# Altium footprint library smartcar_lib.PcbLib: 126 footprints (part 3 of 8)
Each footprint in its own frame and in the unit in brackets; x right, y up, seen from the top. Pads: shape width x height; smd on the part's side, far side on the other; paste and mask are expansions set on the pad; w line width, h text height; cw(c..) or ccw(c..) is an arc to the next point about the centre after c.
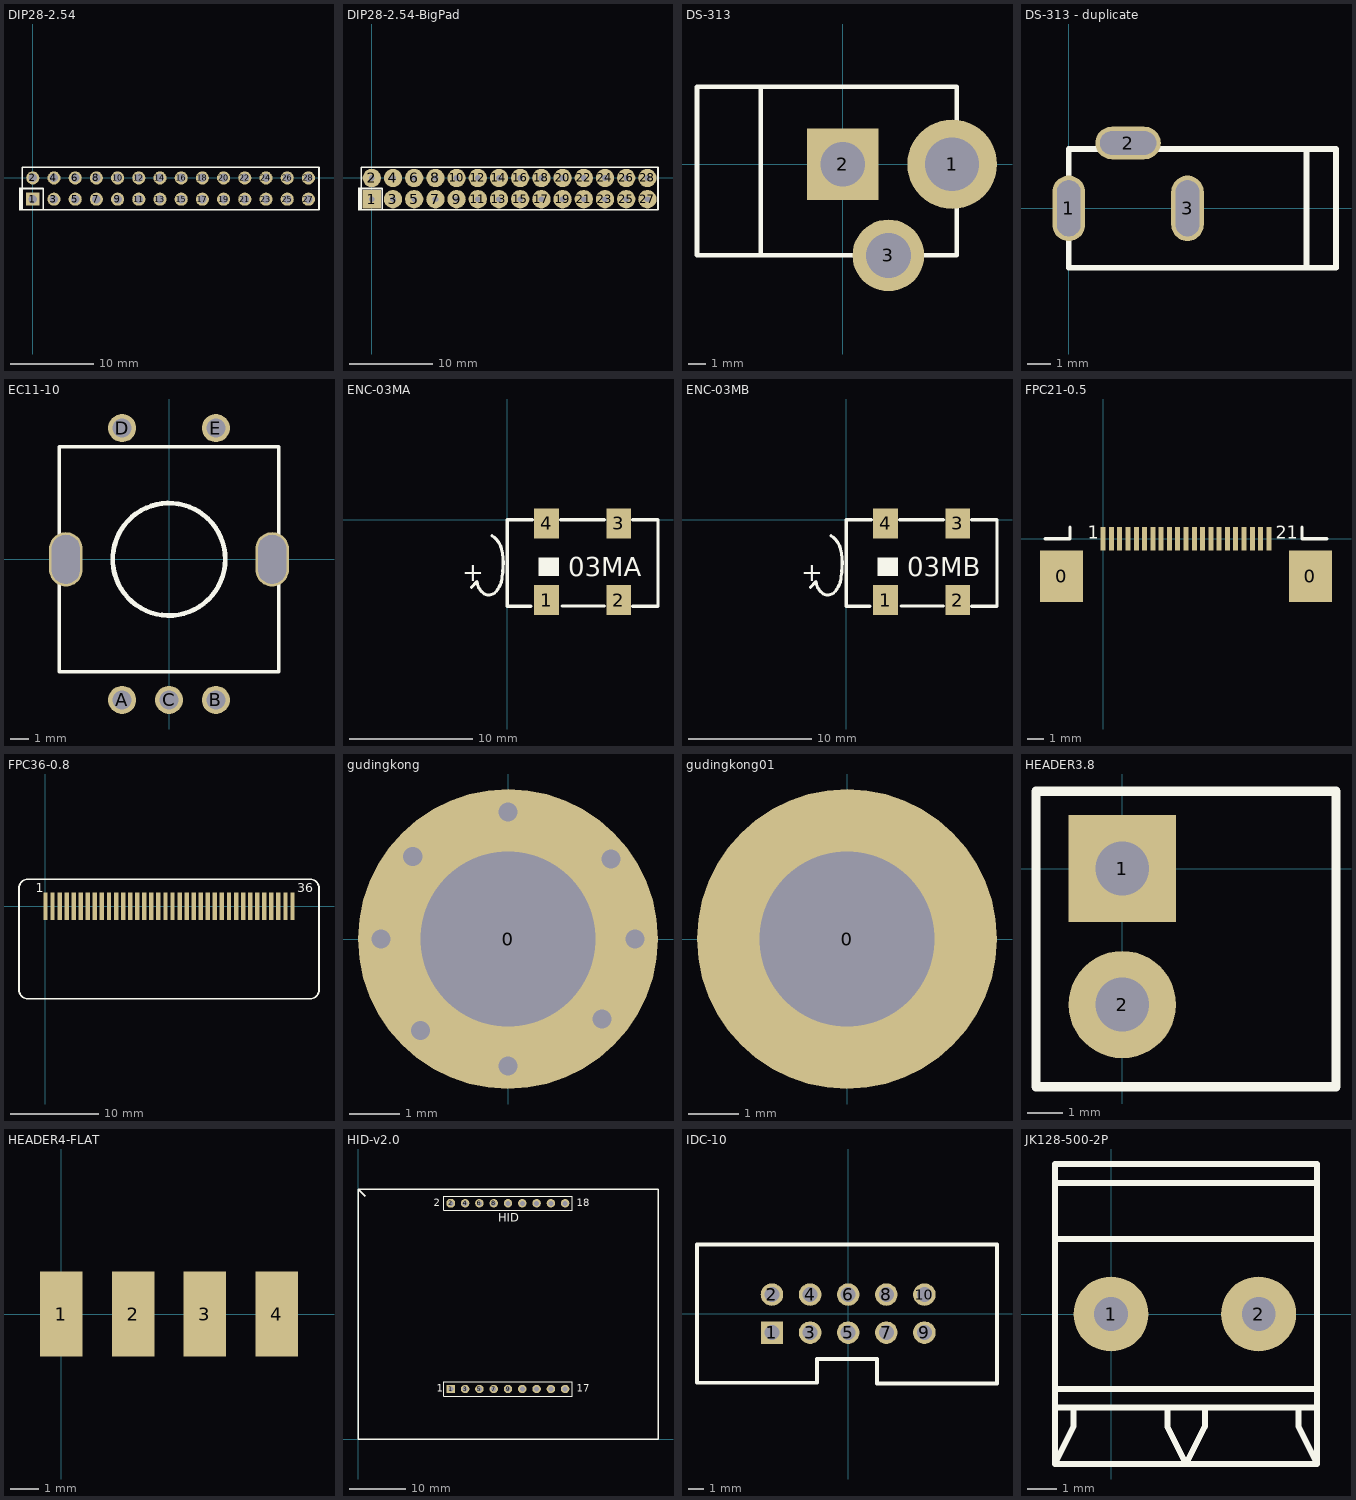
[diagram p2: the footprints below, top view; thin cyan lines are the x and y axes]

## DIP28-2.54 [mil]
height 10
pads (28):
  rect 62x62 hole 40: 1(0,-100)
  round 62 hole 40: 2(0,0) 3(100,-100) 4(100,0) 5(200,-100) 6(200,0) 7(300,-100) 8(300,0) 9(400,-100) 10(400,0) 11(500,-100) 12(500,0) 13(600,-100) 14(600,0) 15(700,-100) 16(700,0) 17(800,-100) 18(800,0) 19(900,-100) 20(900,0) 21(1000,-100) 22(1000,0) 23(1100,-100) 24(1100,0) 25(1200,-100) 26(1200,0) 27(1300,-100) 28(1300,0)
Top Overlay:
  rectangle: -65,-154 -50,-46
  lines w8: -50,-50 50,-50 50,-150 ; -50,-150 -50,50 1350,50 1350,-150 -50,-150

## DIP28-2.54-BigPad [mm]
height 0.254
pads (28):
  rect 2.2x2.2 hole 0.7: 1(0,-2.54)
  round 2.2 hole 0.7: 2(0,0) 3(2.54,-2.54) 4(2.54,0) 5(5.08,-2.54) 6(5.08,0) 7(7.62,-2.54) 8(7.62,0) 9(10.16,-2.54) 10(10.16,0) 11(12.7,-2.54) 12(12.7,0) 13(15.24,-2.54) 14(15.24,0) 15(17.78,-2.54) 16(17.78,0) 17(20.32,-2.54) 18(20.32,0) 19(22.86,-2.54) 20(22.86,0) 21(25.4,-2.54) 22(25.4,0) 23(27.94,-2.54) 24(27.94,0) 25(30.48,-2.54) 26(30.48,0) 27(33.02,-2.54) 28(33.02,0)
Top Overlay:
  rectangle: -1.651,-3.912 -1.27,-1.168
  lines w0.203: -1.27,-1.27 1.27,-1.27 1.27,-3.81 ; -1.27,-3.81 -1.27,1.27 34.29,1.27 34.29,-3.81 -1.27,-3.81

## DS-313 [mm]
pads (3):
  round 5 hole 3: 1(6.096,0)
  rect 4x4 hole 2.5: 2(0,0)
  round 4 hole 2.5: 3(2.54,-5.08)
Top Overlay:
  lines w0.254: -4.572,-5.08 -4.572,4.318 ; -8.128,-5.08 6.35,-5.08 6.35,4.318 -8.128,4.318 -8.128,-5.08

## DS-313 - duplicate [mm]
pads (3):
  oval 1.4x2.8 hole 1 slot 2.4 at 90 deg: 1(0,0) 3(5.08,0)
  oval 2.8x1.4 hole 1 slot 2.4 at 0 deg: 2(2.54,2.794)
Top Overlay:
  lines w0.254: 10.16,-2.54 10.16,2.54 ; 0,-2.54 11.43,-2.54 11.43,2.54 0,2.54 0,-2.54

## EC11-10 [mm]
pads (7):
  round 1.5 hole 1: A(-2.5,-7.5) B(2.5,-7.5) C(0,-7.5) D(-2.5,7) E(2.5,7)
  oval 1.8x2.9 hole 1.5 slot 2.6 at 90 deg: ""(-5.5,0) ""(5.5,0)
Top Overlay:
  circle w0.254: c0,0 r3
  lines w0.2: -5.85,-6 -5.85,6 5.85,6 5.85,-6 -5.85,-6

## ENC-03MA [mm]
pads (4):
  rect 2x2.4 smd: 1(3.18,-6.5) 2(9.02,-6.5) 3(9.02,-0.3) 4(3.18,-0.3)
Top Overlay:
  rectangle: 2.54,-4.572 4.191,-3.048
  lines w0.254: -2.896,-5.461 -2.464,-5.029 -2.464,-5.004 ccw(c-1.096,-4.856) -1.829,-6.02 ccw(c-1.511,-5.406) -1.194,-6.02 ; -1.245,-1.295 cw(c-2.247,-2.859) -0.457,-2.362 cw(c-6.208,-3.584) -0.415,-4.588 cw(c-2.453,-4.47) -1.067,-5.969 ; 1.922,-7 0.763,-7 0,-7 0,0 2.032,0 ; 4.318,0 7.874,0 ; 4.432,-6.985 7.874,-6.985 ; 10.16,-7 12.2,-7 12.2,0 11.658,0 10.16,0
  text "03MA" at 4.953,-4.572 h1.52
  text "+" at -3.658,-4.978 h1.52

## ENC-03MB [mm]
pads (4):
  rect 2x2.4 smd: 1(3.18,-6.5) 2(9.02,-6.5) 3(9.02,-0.3) 4(3.18,-0.3)
Top Overlay:
  rectangle: 2.54,-4.572 4.191,-3.048
  lines w0.254: -2.896,-5.461 -2.464,-5.029 -2.464,-5.004 ccw(c-1.096,-4.856) -1.829,-6.02 ccw(c-1.511,-5.406) -1.194,-6.02 ; -1.245,-1.295 cw(c-2.247,-2.859) -0.457,-2.362 cw(c-6.208,-3.584) -0.415,-4.588 cw(c-2.453,-4.47) -1.067,-5.969 ; 1.922,-7 0.763,-7 0,-7 0,0 2.032,0 ; 4.318,0 7.874,0 ; 4.432,-6.985 7.874,-6.985 ; 10.16,-7 12.2,-7 12.2,0 11.658,0 10.16,0
  text "+" at -3.658,-4.978 h1.52
  text "03MB" at 4.953,-4.572 h1.52

## FPC21-0.5 [mm]
pads (23):
  rect 2.6x3.1 smd: 0(-2.5,-2.25) 0(12.5,-2.25)
  rect 0.3x1.4 smd: 1(0,0) 2(0.5,0) 3(1,0) 4(1.5,0) 5(2,0) 6(2.5,0) 7(3,0) 8(3.5,0) 9(4,0) 10(4.5,0) 11(5,0) 12(5.5,0) 13(6,0) 14(6.5,0) 15(7,0) 16(7.5,0) 17(8,0) 18(8.5,0) 19(9,0) 20(9.5,0) 21(10,0)
Top Overlay:
  lines w0.203: -3.5,0 -2,0 -2,0.7 ; 12,0.7 12,0 13.5,0
  text "1" at -0.914,0 h0.76
  text "21" at 10.414,0 h0.76

## FPC36-0.8 [mm]
pads (36):
  rect 0.5x3.1 smd: 1(0,0) 2(0.8,0) 3(1.6,0) 4(2.4,0) 5(3.2,0) 6(4,0) 7(4.8,0) 8(5.6,0) 9(6.4,0) 10(7.2,0) 11(8,0) 12(8.8,0) 13(9.6,0) 14(10.4,0) 15(11.2,0) 16(12,0) 17(12.8,0) 18(13.6,0) 19(14.4,0) 20(15.2,0) 21(16,0) 22(16.8,0) 23(17.6,0) 24(18.4,0) 25(19.2,0) 26(20,0) 27(20.8,0) 28(21.6,0) 29(22.4,0) 30(23.2,0) 31(24,0) 32(24.8,0) 33(25.6,0) 34(26.4,0) 35(27.2,0) 36(28,0)
Top Overlay:
  lines w0.203: -3,-9.5 ccw(c-2,-9.5) -2,-10.5 30,-10.5 ccw(c30,-9.5) 31,-9.5 31,2.05 ccw(c30,2.05) 30,3.05 -2,3.05 ccw(c-2,2.05) -3,2.05 -3,-9.5
  text "36" at 28.524,1.575 h1.02
  text "1" at -1.092,1.549 h1.02

## gudingkong [mm]
pads (1):
  round 6 hole 3.5: 0(0,0)
via 0,2.54 diameter 0.762 hole 0.381
via 0,-2.54 diameter 0.762 hole 0.381
via -2.54,0 diameter 0.762 hole 0.381
via 2.54,0 diameter 0.762 hole 0.381
via -1.905,1.651 diameter 0.762 hole 0.381
via 2.057,1.6 diameter 0.762 hole 0.381
via -1.753,-1.829 diameter 0.762 hole 0.381
via 1.88,-1.6 diameter 0.762 hole 0.381

## gudingkong01 [mm]
pads (1):
  round 6 hole 3.5: 0(0,0)

## HEADER3.8 [mm]
pads (2):
  rect 3x3 hole 1.5: 1(0,0)
  round 3 hole 1.5: 2(0,-3.8)
Top Overlay:
  lines w0.254: -2.413,-6.096 -2.413,2.159 5.969,2.159 5.969,-6.096 -2.413,-6.096

## HEADER4-FLAT [mm]
pads (4):
  rect 1.5x3 smd: 1(0,0) 2(2.54,0) 3(5.08,0) 4(7.62,0)

## HID-v2.0 [mm] "Connector; Header; 9x2 Position"
pads (18):
  rect 1.5x1.5 hole 0.9: 1(16.51,8.89)
  oct 1.5x1.5 hole 0.9: 2(16.51,41.91)
  round 1.5 hole 0.9: 3(19.05,8.89) 4(19.05,41.91) 5(21.59,8.89) 6(21.59,41.91) 7(24.13,8.89) 8(24.13,41.91) 9(26.67,8.89) 10(26.67,41.91) 11(29.21,8.89) 12(29.21,41.91) 13(31.75,8.89) 14(31.75,41.91) 15(34.29,8.89) 16(34.29,41.91) 17(36.83,8.89) 18(36.83,41.91)
Top Overlay:
  lines w0.2: 15.24,7.62 15.24,10.16 38.1,10.16 38.1,7.62 15.24,7.62 ; 15.24,40.64 38.1,40.64 38.1,43.18 15.24,43.18 15.24,40.64
  lines w0.254: 1.27,43.18 0,44.45 ; 0,44.45 53.34,44.45 53.34,0 0,0 0,44.45
  text "HID" at 24.892,38.608 h1.52
  text "18" at 38.862,41.402 h1.27
  text "17" at 38.862,8.382 h1.27
  text "1" at 13.97,8.382 h1.27
  text "2" at 13.462,41.402 h1.27

## IDC-10 [mm]
pads (10):
  rect 1.499x1.499 hole 1: 1(-5.08,-1.27)
  round 1.5 hole 1: 2(-5.08,1.27) 3(-2.54,-1.27) 4(-2.54,1.27) 5(0,-1.27) 6(0,1.27) 7(2.54,-1.27) 8(2.54,1.27) 9(5.08,-1.27) 10(5.08,1.27)
Top Overlay:
  lines w0.254: -10.08,-4.612 -10.08,4.598 9.92,4.598 9.92,-4.652 1.92,-4.652 1.92,-3.017 -2.08,-3.017 -2.08,-4.612 -10.08,-4.612

## JK128-500-2P [mil]
pads (2):
  round 100 hole 45: 1(0,0) 2(196.85,0)
Top Overlay:
  lines w8: -75,-125 275,-125 ; -75,-100 275,-100 ; -75,100 275,100 ; -75,175 275,175 ; -50,-125 -50,-150 -75,-200 ; 75,-125 75,-150 100,-200 125,-150 125,-125 ; 250,-125 250,-150 275,-200 ; -75,-200 275,-200 ; -75,-200 -75,200 275,200 275,-200